# Altium footprint library AD5206BRUZ50.PcbLib: 2 footprints
Each footprint in its own frame and in the unit in brackets; x right, y up, seen from the top. Pads: shape width x height; smd on the part's side, far side on the other; paste and mask are expansions set on the pad; w line width, h text height; cw(c..) or ccw(c..) is an arc to the next point about the centre after c.
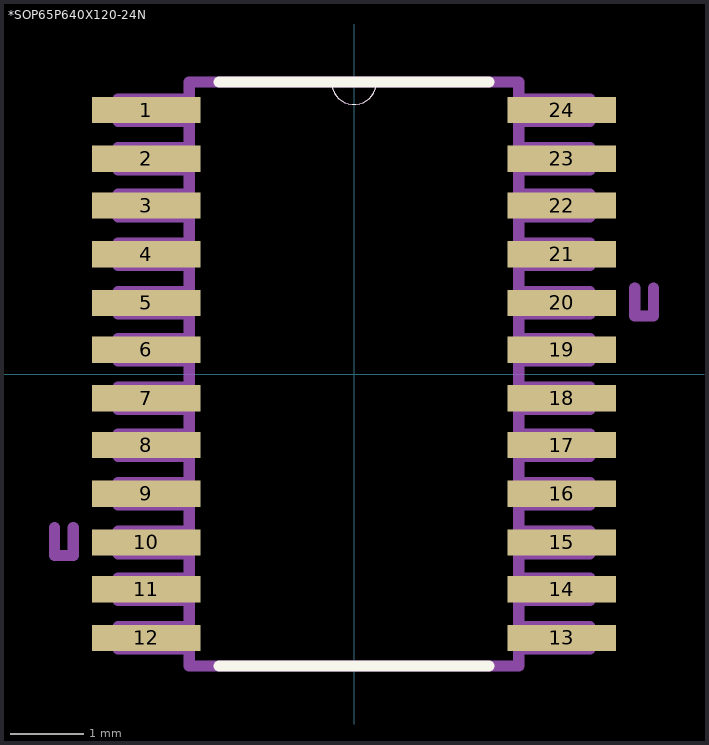
[diagram p0: the footprints below, top view; thin cyan lines are the x and y axes]

## *SOP65P640X120-24N [mil]
pads (24):
  rect 58x14 smd: 1(-111,141) 2(-111,115) 3(-111,90) 4(-111,64) 5(-111,38) 6(-111,13) 7(-111,-13) 8(-111,-38) 9(-111,-64) 10(-111,-90) 11(-111,-115) 12(-111,-141) 13(111,-141) 14(111,-115) 15(111,-90) 16(111,-64) 17(111,-38) 18(111,-13) 19(111,13) 20(111,38) 21(111,64) 22(111,90) 23(111,115) 24(111,141)
Top Overlay:
  lines w0: -12,156 ccw(c0,156) 12,156
  lines w6: -72,-156 72,-156 ; -72,156 -12,156 12,156 72,156
Mechanical 4:
  drawing of 218 lines, arcs and shapes, not listed
  text "*" at -144.2,140.37 h73.82
  text "*" at -144.2,140.37 h73.82

## PCBComponent_1 [mil]